# Altium footprint library Inductors.PcbLib: 3 footprints
Each footprint in its own frame and in the unit in brackets; x right, y up, seen from the top. Pads: shape width x height; smd on the part's side, far side on the other; paste and mask are expansions set on the pad; w line width, h text height; cw(c..) or ccw(c..) is an arc to the next point about the centre after c.
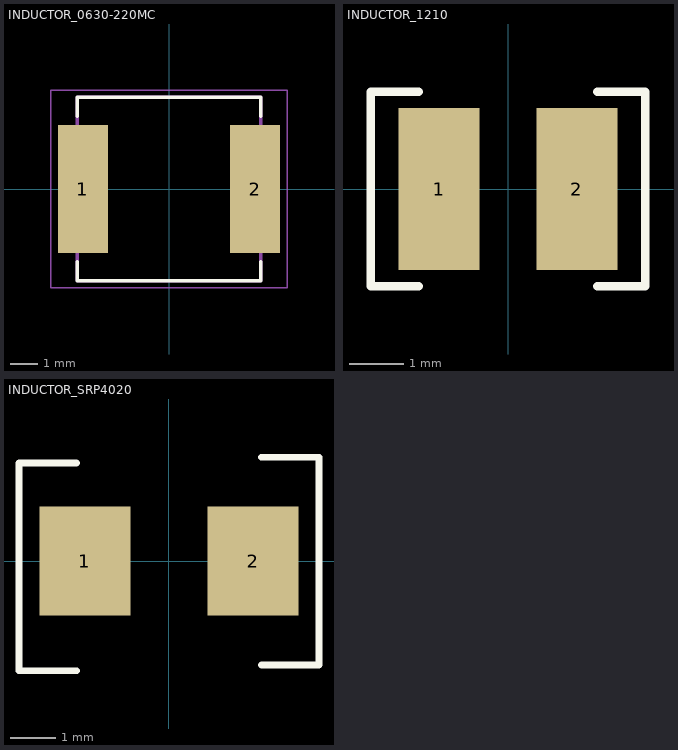
[diagram p0: the footprints below, top view; thin cyan lines are the x and y axes]

## INDUCTOR_0630-220MC [mm]
pads (2):
  rect 1.8x4.6 smd: 1(-3.1,0) 2(3.1,0)
Top Overlay:
  lines w0.127: -3.3,-2.62 -3.3,-3.3 3.3,-3.3 3.3,-2.62 ; -3.3,2.62 -3.3,3.3 3.3,3.3 3.3,2.62
Mechanical 13:
  lines w0.127: -3.3,-3.3 -3.3,3.3 3.3,3.3 3.3,-3.3 -3.3,-3.3
Mechanical 15:
  lines w0.05: -4.25,-3.55 -4.25,3.55 4.25,3.55 4.25,-3.55 -4.25,-3.55
3D body "step_temp.STEP": height 3, standoff 0, extent -3.55,-3.3 3.55,3.3

## INDUCTOR_1210 [mm] "1210 SMD Inductor Unshielded"
pads (2):
  rect 1.5x3 smd: 1(-1.275,0) 2(1.275,0)
Top Overlay:
  lines w0.152: -1.651,-1.8 -2.54,-1.8 -2.54,1.8 -1.651,1.8 ; 1.651,-1.8 2.54,-1.8 2.54,1.8 1.651,1.8
3D body "User Library-Chip Inductor.step": height 1.36, standoff 0.01, extent -1.6,-1.25 1.6,1.25

## INDUCTOR_SRP4020 [mm] "Bournes SRP4020TA-150M"
pads (2):
  rect 2x2.4 smd: 1(-1.85,0) 2(1.85,0)
Top Overlay:
  lines w0.152: -2.032,-2.413 -3.302,-2.413 -3.302,2.159 -2.032,2.159 ; 2.032,-2.286 3.302,-2.286 3.302,2.286 2.032,2.286
3D body "User Library-SRP-4020 Inductor.step": height 1.96, standoff 0.01, extent -2.15,-2 2.15,2